# Altium integrated library PDQE20-Q24-S5-D.IntLib: 1 symbol
Pins are listed as number, name and electrical type; pins without a type are passive.

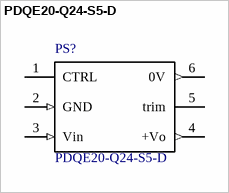
[diagram p0: symbol PDQE20-Q24-S5-D]

## PDQE20-Q24-S5-D
designator PS?
20 W, 4:1 Input Range, Single/Dual Regulated Output, DIP, 1500 Vdc Isolation, Dc-Dc Converter; MF: CUI Inc.; Digi-Key_Purchase_URL: https://www.digikey.com/product-detail/en/cui-inc/PDQE20-Q24-S5-D/102-6267-ND/10230156?utm_source=snapeda&utm_medium=aggregator&utm_campaign=symbol; CUI_purchase_URL: https://www.cui.com/product/dc-dc-converters/isolated/pdqe20-d-series?utm_source=snapeda.com&utm_medium=referral&utm_campaign=snapedaBOM; Digi-Key_Part_Number: 102-6267-ND; Package: DIP-6 CUI Inc.; SnapEDA_Link: https://www.snapeda.com/parts/PDQE20-Q24-S5-D/CUI/view-part/3740268/?ref=snap; MP: PDQE20-Q24-S5-D; Value: *
footprint *CONV_PDQE20-Q24-S5-D
pins: 1 CTRL (oc), 2 GND (in), 3 Vin (in), 4 +Vo (out), 5 trim, 6 0V (out)